# EAGLE library part ATMEGA64M1 (library PNP)
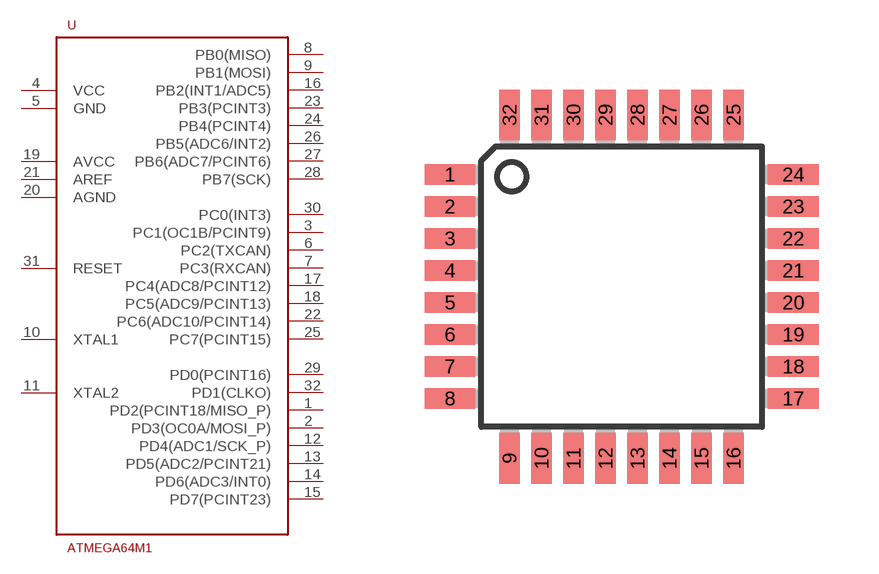
[diagram p13: symbol with the pads of TQFP32-08; footprint TQFP32-08]

Designator prefix -

## ATMEGA64M1  [TQFP32-08]
1  PD2(PCINT18/MISO_P)
2  PD3(OC0A/MOSI_P)
3  PC1(OC1B/PCINT9)
4  VCC  pwr
5  GND  pwr
6  PC2(TXCAN)
7  PC3(RXCAN)
8  PB0(MISO)
9  PB1(MOSI)
10  XTAL1  pas
11  XTAL2  pas
12  PD4(ADC1/SCK_P)
13  PD5(ADC2/PCINT21)
14  PD6(ADC3/INT0)
15  PD7(PCINT23)
16  PB2(INT1/ADC5)
17  PC4(ADC8/PCINT12)
18  PC5(ADC9/PCINT13)
19  AVCC  pwr
20  AGND  pwr
21  AREF  pas
22  PC6(ADC10/PCINT14)
23  PB3(PCINT3)
24  PB4(PCINT4)
25  PC7(PCINT15)
26  PB5(ADC6/INT2)
27  PB6(ADC7/PCINT6)
28  PB7(SCK)
29  PD0(PCINT16)
30  PC0(INT3)
31  RESET
32  PD1(CLKO)

## Footprint TQFP32-08 (pad centres in mm)
Thin Plasic Quad Flat Package Grid 0.8 mm
smd 1.27 x 0.508: 1 -4.293,2.8; 2 -4.293,2; 3 -4.293,1.2; 4 -4.293,0.4; 5 -4.293,-0.4; 6 -4.293,-1.2; 7 -4.293,-2; 8 -4.293,-2.8; 17 4.293,-2.8; 18 4.293,-2; 19 4.293,-1.2; 20 4.293,-0.4; 21 4.293,0.4; 22 4.293,1.2; 23 4.293,2; 24 4.293,2.8
smd 0.508 x 1.27: 9 -2.8,-4.293; 10 -2,-4.293; 11 -1.2,-4.293; 12 -0.4,-4.293; 13 0.4,-4.293; 14 1.2,-4.293; 15 2,-4.293; 16 2.8,-4.293; 25 2.8,4.293; 26 2,4.293; 27 1.2,4.293; 28 0.4,4.293; 29 -0.4,4.293; 30 -1.2,4.293; 31 -2,4.293; 32 -2.8,4.293